# Altium schematic symbol library 1.3 - CD4000系列芯片.SCHLIB: 171 symbols (part 2 of 2)
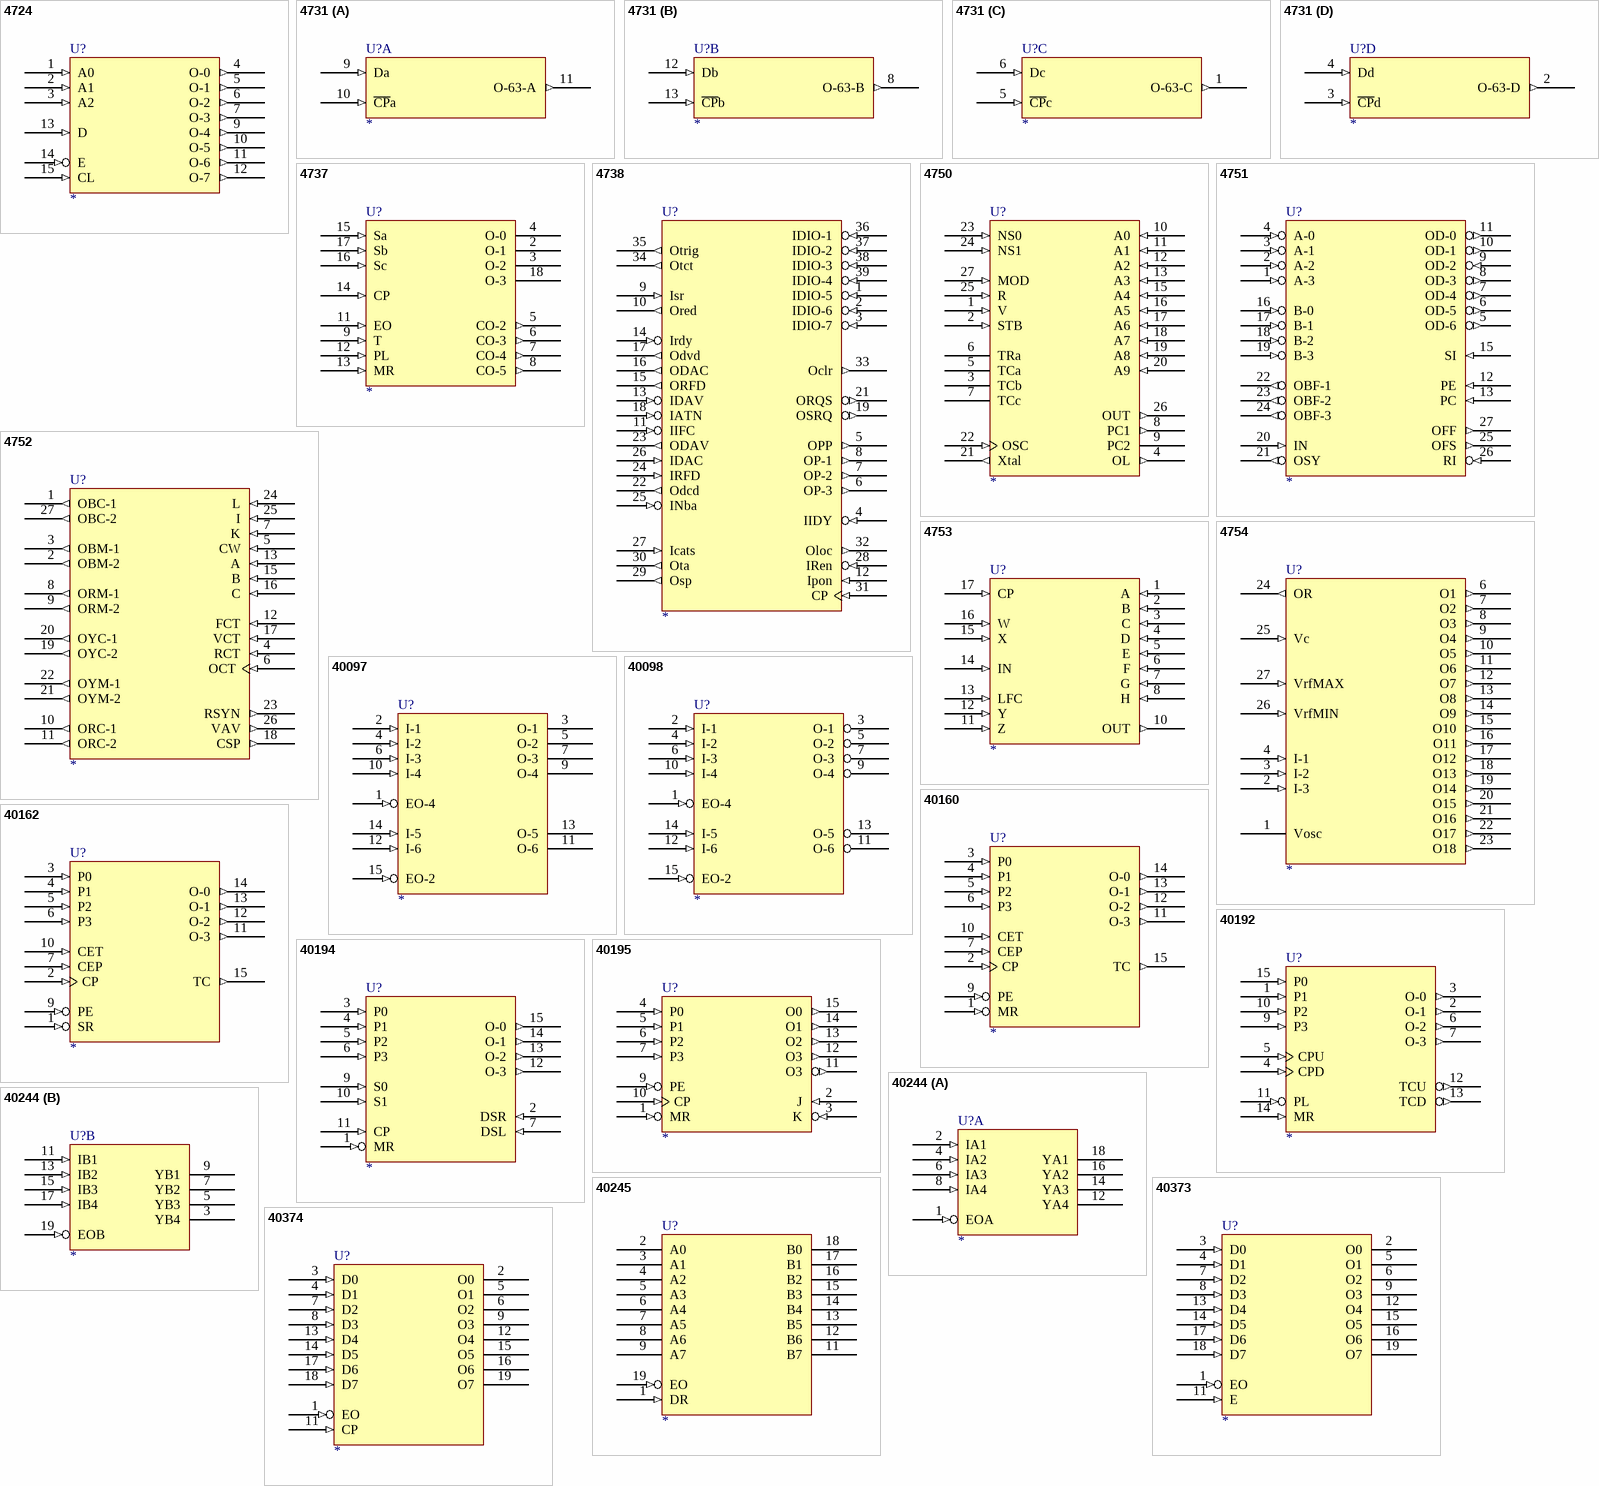
[diagram p8: symbols 4724 to 40374]

## 4752
designator U?
联系卖家，免费查找封装: 唯一出售店铺网址https://shop463601444.taobao.com
footprint DIP-28
pins: 1 OBC-1 (out), 2 OBM-2 (out), 3 OBM-1 (out), 4 RCT (in), 5 CW (in), 6 OCT (in), 7 K (in), 8 ORM-1 (out), 9 ORM-2 (out), 10 ORC-1 (out), 11 ORC-2 (out), 12 FCT (in), 13 A (in), 14 GND (power) hidden to GND, 15 B (in), 16 C (in), 17 VCT (in), 18 CSP (out), 19 OYC-2 (out), 20 OYC-1 (out), 21 OYM-2 (out), 22 OYM-1 (out), 23 RSYN (out), 24 L (in), 25 I (in), 26 VAV (out), 27 OBC-2 (out), 28 VCC (power) hidden to VCC

## 4753
designator U?
联系卖家，免费查找封装: 唯一出售店铺网址https://shop463601444.taobao.com
footprint DIP-18
pins: 1 A (in), 2 B (in), 3 C (in), 4 D (in), 5 E (in), 6 F (in), 7 G (in), 8 H (in), 9 GND (power) hidden to GND, 10 OUT (out), 11 Z (in), 12 Y (in), 13 LFC (in), 14 IN (in), 15 X (in), 16 W (in), 17 CP (in), 18 VCC (power) hidden to VCC

## 4754
designator U?
联系卖家，免费查找封装: 唯一出售店铺网址https://shop463601444.taobao.com
footprint DIP-28
pins: 1 Vosc, 2 I-3 (in), 3 I-2 (in), 4 I-1 (in), 5 GND (power) hidden to GND, 6 O1 (out), 7 O2 (out), 8 O3 (out), 9 O4 (out), 10 O5 (out), 11 O6 (out), 12 O7 (out), 13 O8 (out), 14 O9 (out), 15 O10 (out), 16 O11 (out), 17 O12 (out), 18 O13 (out), 19 O14 (out), 20 O15 (out), 21 O16 (out), 22 O17 (out), 23 O18 (out), 24 OR (out), 25 Vc (in), 26 VrfMIN (in), 27 VrfMAX (in), 28 VCC (power) hidden to VCC

## 40097
designator U?
联系卖家，免费查找封装: 唯一出售店铺网址https://shop463601444.taobao.com
footprint DIP-16
pins: 1 EO-4 (in), 2 I-1 (in), 3 O-1 (hiz), 4 I-2 (in), 5 O-2 (hiz), 6 I-3 (in), 7 O-3 (hiz), 8 GND (power) hidden to GND, 9 O-4 (hiz), 10 I-4 (in), 11 O-6 (hiz), 12 I-6 (in), 13 O-5 (hiz), 14 I-5 (in), 15 EO-2 (in), 16 VCC (power) hidden to VCC

## 40098
designator U?
联系卖家，免费查找封装: 唯一出售店铺网址https://shop463601444.taobao.com
footprint DIP-16
pins: 1 EO-4 (in), 2 I-1 (in), 3 O-1 (hiz), 4 I-2 (in), 5 O-2 (hiz), 6 I-3 (in), 7 O-3 (hiz), 8 GND (power) hidden to GND, 9 O-4 (hiz), 10 I-4 (in), 11 O-6 (hiz), 12 I-6 (in), 13 O-5 (hiz), 14 I-5 (in), 15 EO-2 (in), 16 VCC (power) hidden to VCC

## 40160
designator U?
联系卖家，免费查找封装: 唯一出售店铺网址https://shop463601444.taobao.com
footprint DIP-16
pins: 1 MR (in), 2 CP (in), 3 P0 (in), 4 P1 (in), 5 P2 (in), 6 P3 (in), 7 CEP (in), 8 GND (power) hidden to GND, 9 PE (in), 10 CET (in), 11 O-3 (out), 12 O-2 (out), 13 O-1 (out), 14 O-0 (out), 15 TC (out), 16 VCC (power) hidden to VCC

## 40162
designator U?
联系卖家，免费查找封装: 唯一出售店铺网址https://shop463601444.taobao.com
footprint DIP-16
pins: 1 SR (in), 2 CP (in), 3 P0 (in), 4 P1 (in), 5 P2 (in), 6 P3 (in), 7 CEP (in), 8 GND (power) hidden to GND, 9 PE (in), 10 CET (in), 11 O-3 (out), 12 O-2 (out), 13 O-1 (out), 14 O-0 (out), 15 TC (out), 16 VCC (power) hidden to VCC

## 40192
designator U?
联系卖家，免费查找封装: 唯一出售店铺网址https://shop463601444.taobao.com
footprint DIP-16
pins: 1 P1 (in), 2 O-1 (out), 3 O-0 (out), 4 CPD (in), 5 CPU (in), 6 O-2 (out), 7 O-3 (out), 8 GND (power) hidden to GND, 9 P3 (in), 10 P2 (in), 11 PL (in), 12 TCU (out), 13 TCD (out), 14 MR (in), 15 P0 (in), 16 VCC (power) hidden to VCC

## 40194
designator U?
联系卖家，免费查找封装: 唯一出售店铺网址https://shop463601444.taobao.com
footprint DIP-16
pins: 1 MR (in), 2 DSR (in), 3 P0 (in), 4 P1 (in), 5 P2 (in), 6 P3 (in), 7 DSL (in), 8 GND (power) hidden to GND, 9 S0 (in), 10 S1 (in), 11 CP (in), 12 O-3 (out), 13 O-2 (out), 14 O-1 (out), 15 O-0 (out), 16 VCC (power) hidden to VCC

## 40195
designator U?
联系卖家，免费查找封装: 唯一出售店铺网址https://shop463601444.taobao.com
footprint DIP-16
pins: 1 MR (in), 2 J (in), 3 K (in), 4 P0 (in), 5 P1 (in), 6 P2 (in), 7 P3 (in), 8 GND (power) hidden to GND, 9 PE (in), 10 CP (in), 11 O3 (out), 12 O3 (out), 13 O2 (out), 14 O1 (out), 15 O0 (out), 16 VCC (power) hidden to VCC

## 40244
designator U?
联系卖家，免费查找封装: 唯一出售店铺网址https://shop463601444.taobao.com
footprint DIP-20
part A pins: 1 EOA (in), 2 IA1 (in), 4 IA2 (in), 6 IA3 (in), 8 IA4 (in), 10 GND (power) hidden to GND, 12 YA4 (hiz), 14 YA3 (hiz), 16 YA2 (hiz), 18 YA1 (hiz), 20 VCC (power) hidden to VCC
part B pins: 3 YB4 (hiz), 5 YB3 (hiz), 7 YB2 (hiz), 9 YB1 (hiz), 10 GND (power) hidden to GND, 11 IB1 (in), 13 IB2 (in), 15 IB3 (in), 17 IB4 (in), 19 EOB (in), 20 VCC (power) hidden to VCC

## 40245
designator U?
联系卖家，免费查找封装: 唯一出售店铺网址https://shop463601444.taobao.com
footprint DIP-20
pins: 1 DR (in), 2 A0 (hiz), 3 A1 (hiz), 4 A2 (hiz), 5 A3 (hiz), 6 A4 (hiz), 7 A5 (hiz), 8 A6 (hiz), 9 A7 (hiz), 10 GND (power) hidden to GND, 11 B7 (hiz), 12 B6 (hiz), 13 B5 (hiz), 14 B4 (hiz), 15 B3 (hiz), 16 B2 (hiz), 17 B1 (hiz), 18 B0 (hiz), 19 EO (in), 20 VCC (power) hidden to VCC

## 40373
designator U?
联系卖家，免费查找封装: 唯一出售店铺网址https://shop463601444.taobao.com
footprint DIP-20
pins: 1 EO (in), 2 O0 (hiz), 3 D0 (in), 4 D1 (in), 5 O1 (hiz), 6 O2 (hiz), 7 D2 (in), 8 D3 (in), 9 O3 (hiz), 10 GND (power) hidden to GND, 11 E (in), 12 O4 (hiz), 13 D4 (in), 14 D5 (in), 15 O5 (hiz), 16 O6 (hiz), 17 D6 (in), 18 D7 (in), 19 O7 (hiz), 20 VCC (power) hidden to VCC

## 40374
designator U?
联系卖家，免费查找封装: 唯一出售店铺网址https://shop463601444.taobao.com
footprint DIP-20
pins: 1 EO (in), 2 O0 (hiz), 3 D0 (in), 4 D1 (in), 5 O1 (hiz), 6 O2 (hiz), 7 D2 (in), 8 D3 (in), 9 O3 (hiz), 10 GND (power) hidden to GND, 11 CP (in), 12 O4 (hiz), 13 D4 (in), 14 D5 (in), 15 O5 (hiz), 16 O6 (hiz), 17 D6 (in), 18 D7 (in), 19 O7 (hiz), 20 VCC (power) hidden to VCC

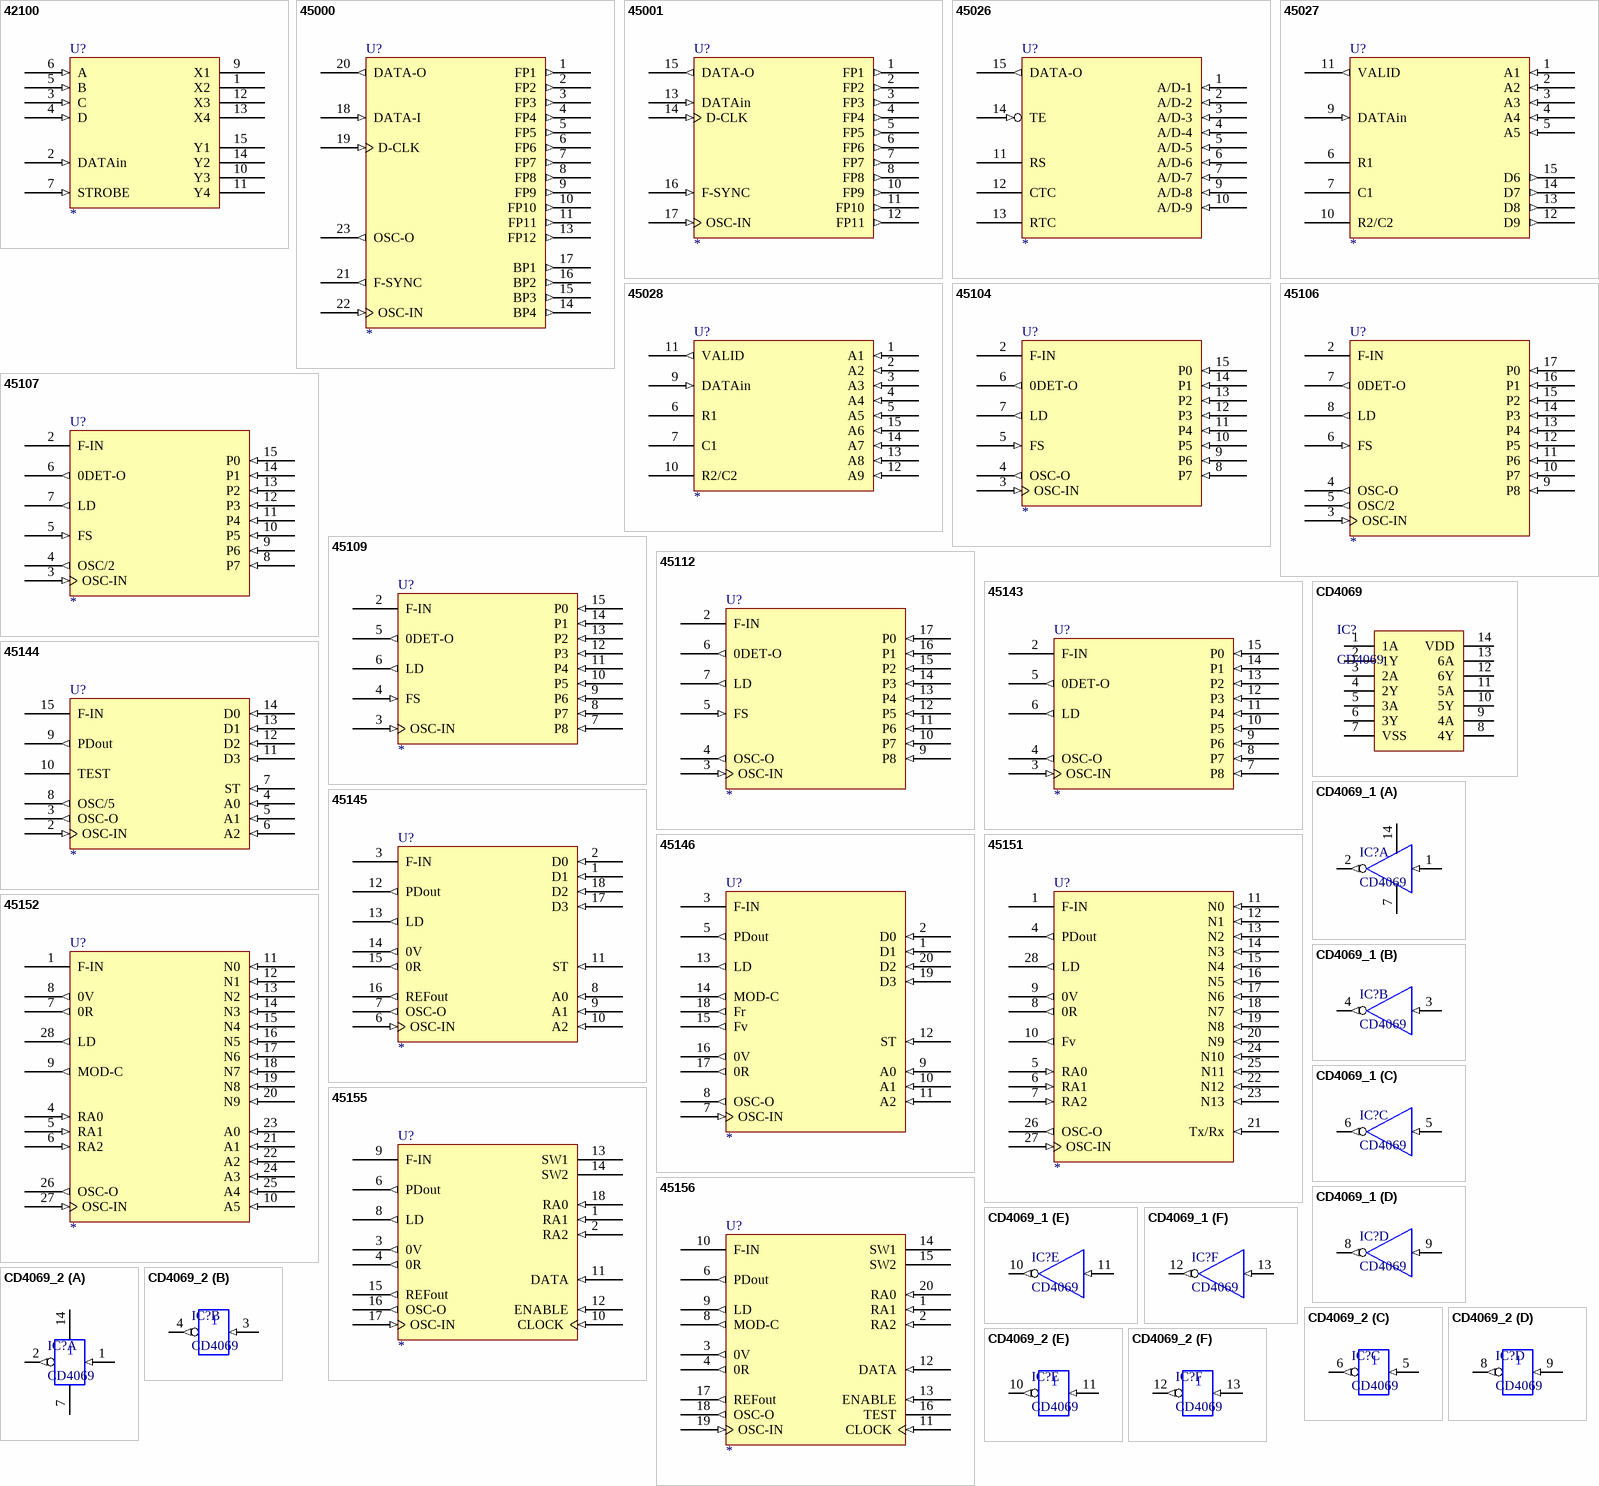
[diagram p7: symbols 42100 to CD4069_2]

## 42100
designator U?
联系卖家，免费查找封装: 唯一出售店铺网址https://shop463601444.taobao.com
footprint DIP-16
pins: 1 X2, 2 DATAin (in), 3 C (in), 4 D (in), 5 B (in), 6 A (in), 7 STROBE (in), 8 GND (power) hidden to GND, 9 X1, 10 Y3, 11 Y4, 12 X3, 13 X4, 14 Y2, 15 Y1, 16 VCC (power) hidden to VCC

## 45000
designator U?
联系卖家，免费查找封装: 唯一出售店铺网址https://shop463601444.taobao.com
footprint DIP-24
pins: 1 FP1 (out), 2 FP2 (out), 3 FP3 (out), 4 FP4 (out), 5 FP5 (out), 6 FP6 (out), 7 FP7 (out), 8 FP8 (out), 9 FP9 (out), 10 FP10 (out), 11 FP11 (out), 12 GND (power) hidden to GND, 13 FP12 (out), 14 BP4 (out), 15 BP3 (out), 16 BP2 (out), 17 BP1 (out), 18 DATA-I (in), 19 D-CLK (in), 20 DATA-O (out), 21 F-SYNC (out), 22 OSC-IN (in), 23 OSC-O (out), 24 VCC (power) hidden to VCC

## 45001
designator U?
联系卖家，免费查找封装: 唯一出售店铺网址https://shop463601444.taobao.com
footprint DIP-18
pins: 1 FP1 (out), 2 FP2 (out), 3 FP3 (out), 4 FP4 (out), 5 FP5 (out), 6 FP6 (out), 7 FP7 (out), 8 FP8 (out), 9 GND (power) hidden to GND, 10 FP9 (out), 11 FP10 (out), 12 FP11 (out), 13 DATAin (in), 14 D-CLK (in), 15 DATA-O (out), 16 F-SYNC (in), 17 OSC-IN (in), 18 VCC (power) hidden to VCC

## 45026
designator U?
联系卖家，免费查找封装: 唯一出售店铺网址https://shop463601444.taobao.com
footprint DIP-16
pins: 1 A/D-1 (in), 2 A/D-2 (in), 3 A/D-3 (in), 4 A/D-4 (in), 5 A/D-5 (in), 6 A/D-6 (in), 7 A/D-7 (in), 8 GND (power) hidden to GND, 9 A/D-8 (in), 10 A/D-9 (in), 11 RS, 12 CTC, 13 RTC, 14 TE (in), 15 DATA-O (out), 16 VCC (power) hidden to VCC

## 45027
designator U?
联系卖家，免费查找封装: 唯一出售店铺网址https://shop463601444.taobao.com
footprint DIP-16
pins: 1 A1 (in), 2 A2 (in), 3 A3 (in), 4 A4 (in), 5 A5 (in), 6 R1, 7 C1, 8 GND (power) hidden to GND, 9 DATAin (in), 10 R2/C2, 11 VALID (out), 12 D9 (out), 13 D8 (out), 14 D7 (out), 15 D6 (out), 16 VCC (power) hidden to VCC

## 45028
designator U?
联系卖家，免费查找封装: 唯一出售店铺网址https://shop463601444.taobao.com
footprint DIP-16
pins: 1 A1 (in), 2 A2 (in), 3 A3 (in), 4 A4 (in), 5 A5 (in), 6 R1, 7 C1, 8 GND (power) hidden to GND, 9 DATAin (in), 10 R2/C2, 11 VALID (out), 12 A9 (in), 13 A8 (in), 14 A7 (in), 15 A6 (in), 16 VCC (power) hidden to VCC

## 45104
designator U?
联系卖家，免费查找封装: 唯一出售店铺网址https://shop463601444.taobao.com
footprint DIP-16
pins: 1 VCC (power) hidden to VCC, 2 F-IN, 3 OSC-IN (in), 4 OSC-O (out), 5 FS (in), 6 0DET-O (out), 7 LD (out), 8 P7 (in), 9 P6 (in), 10 P5 (in), 11 P4 (in), 12 P3 (in), 13 P2 (in), 14 P1 (in), 15 P0 (in), 16 GND (power) hidden to GND

## 45106
designator U?
联系卖家，免费查找封装: 唯一出售店铺网址https://shop463601444.taobao.com
footprint DIP-18
pins: 1 VCC (power) hidden to VCC, 2 F-IN, 3 OSC-IN (in), 4 OSC-O (out), 5 OSC/2 (out), 6 FS (in), 7 0DET-O (out), 8 LD (out), 9 P8 (in), 10 P7 (in), 11 P6 (in), 12 P5 (in), 13 P4 (in), 14 P3 (in), 15 P2 (in), 16 P1 (in), 17 P0 (in), 18 GND (power) hidden to GND

## 45107
designator U?
联系卖家，免费查找封装: 唯一出售店铺网址https://shop463601444.taobao.com
footprint DIP-16
pins: 1 VCC (power) hidden to VCC, 2 F-IN, 3 OSC-IN (in), 4 OSC/2 (out), 5 FS (in), 6 0DET-O (out), 7 LD (out), 8 P7 (in), 9 P6 (in), 10 P5 (in), 11 P4 (in), 12 P3 (in), 13 P2 (in), 14 P1 (in), 15 P0 (in), 16 GND (power) hidden to GND

## 45109
designator U?
联系卖家，免费查找封装: 唯一出售店铺网址https://shop463601444.taobao.com
footprint DIP-16
pins: 1 VCC (power) hidden to VCC, 2 F-IN, 3 OSC-IN (in), 4 FS (in), 5 0DET-O (out), 6 LD (out), 7 P8 (in), 8 P7 (in), 9 P6 (in), 10 P5 (in), 11 P4 (in), 12 P3 (in), 13 P2 (in), 14 P1 (in), 15 P0 (in), 16 GND (power) hidden to GND

## 45112
designator U?
联系卖家，免费查找封装: 唯一出售店铺网址https://shop463601444.taobao.com
footprint DIP-18
pins: 1 VCC (power) hidden to VCC, 2 F-IN, 3 OSC-IN (in), 4 OSC-O (out), 5 FS (in), 6 0DET-O (out), 7 LD (out), 9 P8 (in), 10 P7 (in), 11 P6 (in), 12 P5 (in), 13 P4 (in), 14 P3 (in), 15 P2 (in), 16 P1 (in), 17 P0 (in), 18 GND (power) hidden to GND

## 45143
designator U?
联系卖家，免费查找封装: 唯一出售店铺网址https://shop463601444.taobao.com
footprint DIP-16
pins: 1 VCC (power) hidden to VCC, 2 F-IN, 3 OSC-IN (in), 4 OSC-O (out), 5 0DET-O (out), 6 LD (out), 7 P8 (in), 8 P7 (in), 9 P6 (in), 10 P5 (in), 11 P4 (in), 12 P3 (in), 13 P2 (in), 14 P1 (in), 15 P0 (in), 16 GND (power) hidden to GND

## 45144
designator U?
联系卖家，免费查找封装: 唯一出售店铺网址https://shop463601444.taobao.com
footprint DIP-16
pins: 1 VCC (power) hidden to VCC, 2 OSC-IN (in), 3 OSC-O (out), 4 A0 (in), 5 A1 (in), 6 A2 (in), 7 ST (in), 8 OSC/5 (out), 9 PDout (out), 10 TEST, 11 D3 (in), 12 D2 (in), 13 D1 (in), 14 D0 (in), 15 F-IN, 16 GND (power) hidden to GND

## 45145
designator U?
联系卖家，免费查找封装: 唯一出售店铺网址https://shop463601444.taobao.com
footprint DIP-18
pins: 1 D1 (in), 2 D0 (in), 3 F-IN, 4 GND (power) hidden to GND, 5 VCC (power) hidden to VCC, 6 OSC-IN (in), 7 OSC-O (out), 8 A0 (in), 9 A1 (in), 10 A2 (in), 11 ST (in), 12 PDout (out), 13 LD (out), 14 0V (out), 15 0R (out), 16 REFout (out), 17 D3 (in), 18 D2 (in)

## 45146
designator U?
联系卖家，免费查找封装: 唯一出售店铺网址https://shop463601444.taobao.com
footprint DIP-20
pins: 1 D1 (in), 2 D0 (in), 3 F-IN, 4 GND (power) hidden to GND, 5 PDout (out), 6 VCC (power) hidden to VCC, 7 OSC-IN (in), 8 OSC-O (out), 9 A0 (in), 10 A1 (in), 11 A2 (in), 12 ST (in), 13 LD (out), 14 MOD-C (out), 15 Fv (out), 16 0V (out), 17 0R (out), 18 Fr (out), 19 D3 (in), 20 D2 (in)

## 45151
designator U?
联系卖家，免费查找封装: 唯一出售店铺网址https://shop463601444.taobao.com
footprint DIP-28
pins: 1 F-IN, 2 GND (power) hidden to GND, 3 VCC (power) hidden to VCC, 4 PDout (out), 5 RA0 (in), 6 RA1 (in), 7 RA2 (in), 8 0R (out), 9 0V (out), 10 Fv (out), 11 N0 (in), 12 N1 (in), 13 N2 (in), 14 N3 (in), 15 N4 (in), 16 N5 (in), 17 N6 (in), 18 N7 (in), 19 N8 (in), 20 N9 (in), 21 Tx/Rx (in), 22 N12 (in), 23 N13 (in), 24 N10 (in), 25 N11 (in), 26 OSC-O (out), 27 OSC-IN (in), 28 LD (out)

## 45152
designator U?
联系卖家，免费查找封装: 唯一出售店铺网址https://shop463601444.taobao.com
footprint DIP-28
pins: 1 F-IN, 2 GND (power) hidden to GND, 3 VCC (power) hidden to VCC, 4 RA0 (in), 5 RA1 (in), 6 RA2 (in), 7 0R (out), 8 0V (out), 9 MOD-C (out), 10 A5 (in), 11 N0 (in), 12 N1 (in), 13 N2 (in), 14 N3 (in), 15 N4 (in), 16 N5 (in), 17 N6 (in), 18 N7 (in), 19 N8 (in), 20 N9 (in), 21 A1 (in), 22 A2 (in), 23 A0 (in), 24 A3 (in), 25 A4 (in), 26 OSC-O (out), 27 OSC-IN (in), 28 LD (out)

## 45155
designator U?
联系卖家，免费查找封装: 唯一出售店铺网址https://shop463601444.taobao.com
footprint DIP-18
pins: 1 RA1 (in), 2 RA2 (in), 3 0V (out), 4 0R (out), 5 VCC (power) hidden to VCC, 6 PDout (out), 7 GND (power) hidden to GND, 8 LD (out), 9 F-IN, 10 CLOCK (in), 11 DATA (in), 12 ENABLE (in), 13 SW1 (oc), 14 SW2 (oc), 15 REFout (out), 16 OSC-O (out), 17 OSC-IN (in), 18 RA0 (in)

## 45156
designator U?
联系卖家，免费查找封装: 唯一出售店铺网址https://shop463601444.taobao.com
footprint DIP-20
pins: 1 RA1 (in), 2 RA2 (in), 3 0V (out), 4 0R (out), 5 VCC (power) hidden to VCC, 6 PDout (out), 7 GND (power) hidden to GND, 8 MOD-C (out), 9 LD (out), 10 F-IN, 11 CLOCK (in), 12 DATA (in), 13 ENABLE (in), 14 SW1 (oc), 15 SW2 (oc), 16 TEST, 17 REFout (out), 18 OSC-O (out), 19 OSC-IN (in), 20 RA0 (in)

## CD4069
designator IC?
6路反相器; 联系卖家，免费查找封装: 唯一出售店铺网址https://shop463601444.taobao.com
footprint DIP14-300 (19*7.6*3.8(长宽高）)
footprint DIP14-300_MH (带底座  19*7.6*3.8(长宽高）)
footprint SOP14_L (8.7*6.2*1.8mm（长宽高）)
footprint SOP14_M (8.7*6.2*1.8mm（长宽高）)
footprint SOP14_N (8.7*6.2*1.8mm（长宽高）)
pins: 1 1A, 2 1Y, 3 2A, 4 2Y, 5 3A, 6 3Y, 7 VSS, 8 4Y, 9 4A, 10 5Y, 11 5A, 12 6Y, 13 6A, 14 VDD

## CD4069_1
designator IC?, comment CD4069
6路反相器(美标); 联系卖家，免费查找封装: 唯一出售店铺网址https://shop463601444.taobao.com
footprint DIP14-300 (19*7.6*3.8(长宽高）)
footprint DIP14-300_MH (带底座  19*7.6*3.8(长宽高）)
footprint SOP14_L (8.7*6.2*1.8mm（长宽高）)
footprint SOP14_M (8.7*6.2*1.8mm（长宽高）)
footprint SOP14_N (8.7*6.2*1.8mm（长宽高）)
part A pins: 1 A (in), 2 Y (out), 7 VSS, 14 VDD
part B pins: 3 A (in), 4 Y (out)
part C pins: 5 A (in), 6 Y (out)
part D pins: 8 Y (out), 9 A (in)
part E pins: 10 Y (out), 11 A (in)
part F pins: 12 Y (out), 13 A (in)

## CD4069_2
designator IC?, comment CD4069
6路反相器(国标); 联系卖家，免费查找封装: 唯一出售店铺网址https://shop463601444.taobao.com
footprint DIP14-300 (19*7.6*3.8(长宽高）)
footprint DIP14-300_MH (带底座  19*7.6*3.8(长宽高）)
footprint SOP14_L (8.7*6.2*1.8mm（长宽高）)
footprint SOP14_M (8.7*6.2*1.8mm（长宽高）)
footprint SOP14_N (8.7*6.2*1.8mm（长宽高）)
part A pins: 1 A (in), 2 Y (out), 7 VSS, 14 VDD
part B pins: 3 A (in), 4 Y (out)
part C pins: 5 A (in), 6 Y (out)
part D pins: 8 Y (out), 9 A (in)
part E pins: 10 Y (out), 11 A (in)
part F pins: 12 Y (out), 13 A (in)